# Altium footprint library SON.PcbLib: 1 footprints
Each footprint in its own frame and in the unit in brackets; x right, y up, seen from the top. Pads: shape width x height; smd on the part's side, far side on the other; paste and mask are expansions set on the pad; w line width, h text height; cw(c..) or ccw(c..) is an arc to the next point about the centre after c.
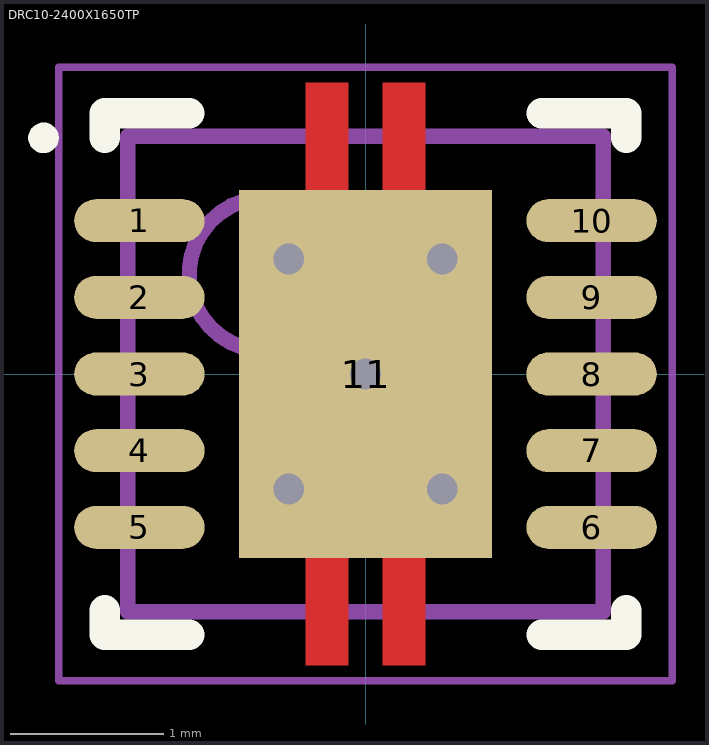
[diagram p0: the footprint, top view; thin cyan lines are the x and y axes]

## DRC10-2400X1650TP [mm] "SON, 10-Leads, Body 3x3mm, Pitch 0.5mm, Thermal Pad 2.4x1.65mm, TI Recommended"
height 1
pads (11):
  oval 0.85x0.28 smd paste-0.025 mask+0.07: 1(-1.475,1) 2(-1.475,0.5) 3(-1.475,0) 4(-1.475,-0.5) 5(-1.475,-1) 6(1.475,-1) 7(1.475,-0.5) 8(1.475,0) 9(1.475,0.5) 10(1.475,1)
  rect 1.65x2.4 smd paste-0.825 mask+0.07: 11(0,0)
via 0,0 diameter 0.5 hole 0.2
via 0.5,0.75 diameter 0.5 hole 0.2
via -0.5,0.75 diameter 0.5 hole 0.2
via -0.5,-0.75 diameter 0.5 hole 0.2
via 0.5,-0.75 diameter 0.5 hole 0.2
Top Layer:
  rectangle: -0.39,1.2 -0.11,1.9
  region: 0.39,1.9 0.11,1.9 0.11,1.2 0.39,1.2
  region: 0.39,-1.2 0.11,-1.2 0.11,-1.9 0.39,-1.9
  rectangle: -0.39,-1.9 -0.11,-1.2
Top Overlay:
  circle w0.1: c-2.1,1.54 r0.05
  lines w0.2: -1.7,-1.54 -1.7,-1.7 -1.15,-1.7 ; -1.7,1.54 -1.7,1.7 -1.15,1.7 ; 1.15,-1.7 1.7,-1.7 1.7,-1.54 ; 1.15,1.7 1.7,1.7 1.7,1.54
Top Paste:
  rectangle: -0.7,0.175 -0.15,1
  rectangle: -0.38,1.38 -0.12,1.88
  region: 0.38,1.88 0.12,1.88 0.12,1.38 0.38,1.38
  region: 0.38,-1.38 0.12,-1.38 0.12,-1.88 0.38,-1.88
  rectangle: -0.38,-1.88 -0.12,-1.38
  region: 0.7,1 0.175,1 0.175,0.175 0.7,0.175
  region: 0.7,-0.15 0.175,-0.15 0.175,-1 0.7,-1
  rectangle: -0.7,-1 -0.15,-0.15
Mechanical 13:
  circle w0.1: c-0.65,0.65 r0.5
  lines w0.1: -1.55,-1.55 -1.55,1.55 1.55,1.55 1.55,-1.55 -1.55,-1.55
Mechanical 15:
  lines w0.05: -2,-2 -2,2 2,2 2,-2 -2,-2
3D body: height 0.81, standoff 0, extent -1.499,-1.498 1.499,1.499